# Altium footprint library Footprint.PcbLib: 240 footprints (part 1 of 15)
Each footprint in its own frame and in the unit in brackets; x right, y up, seen from the top. Pads: shape width x height; smd on the part's side, far side on the other; paste and mask are expansions set on the pad; w line width, h text height; cw(c..) or ccw(c..) is an arc to the next point about the centre after c.
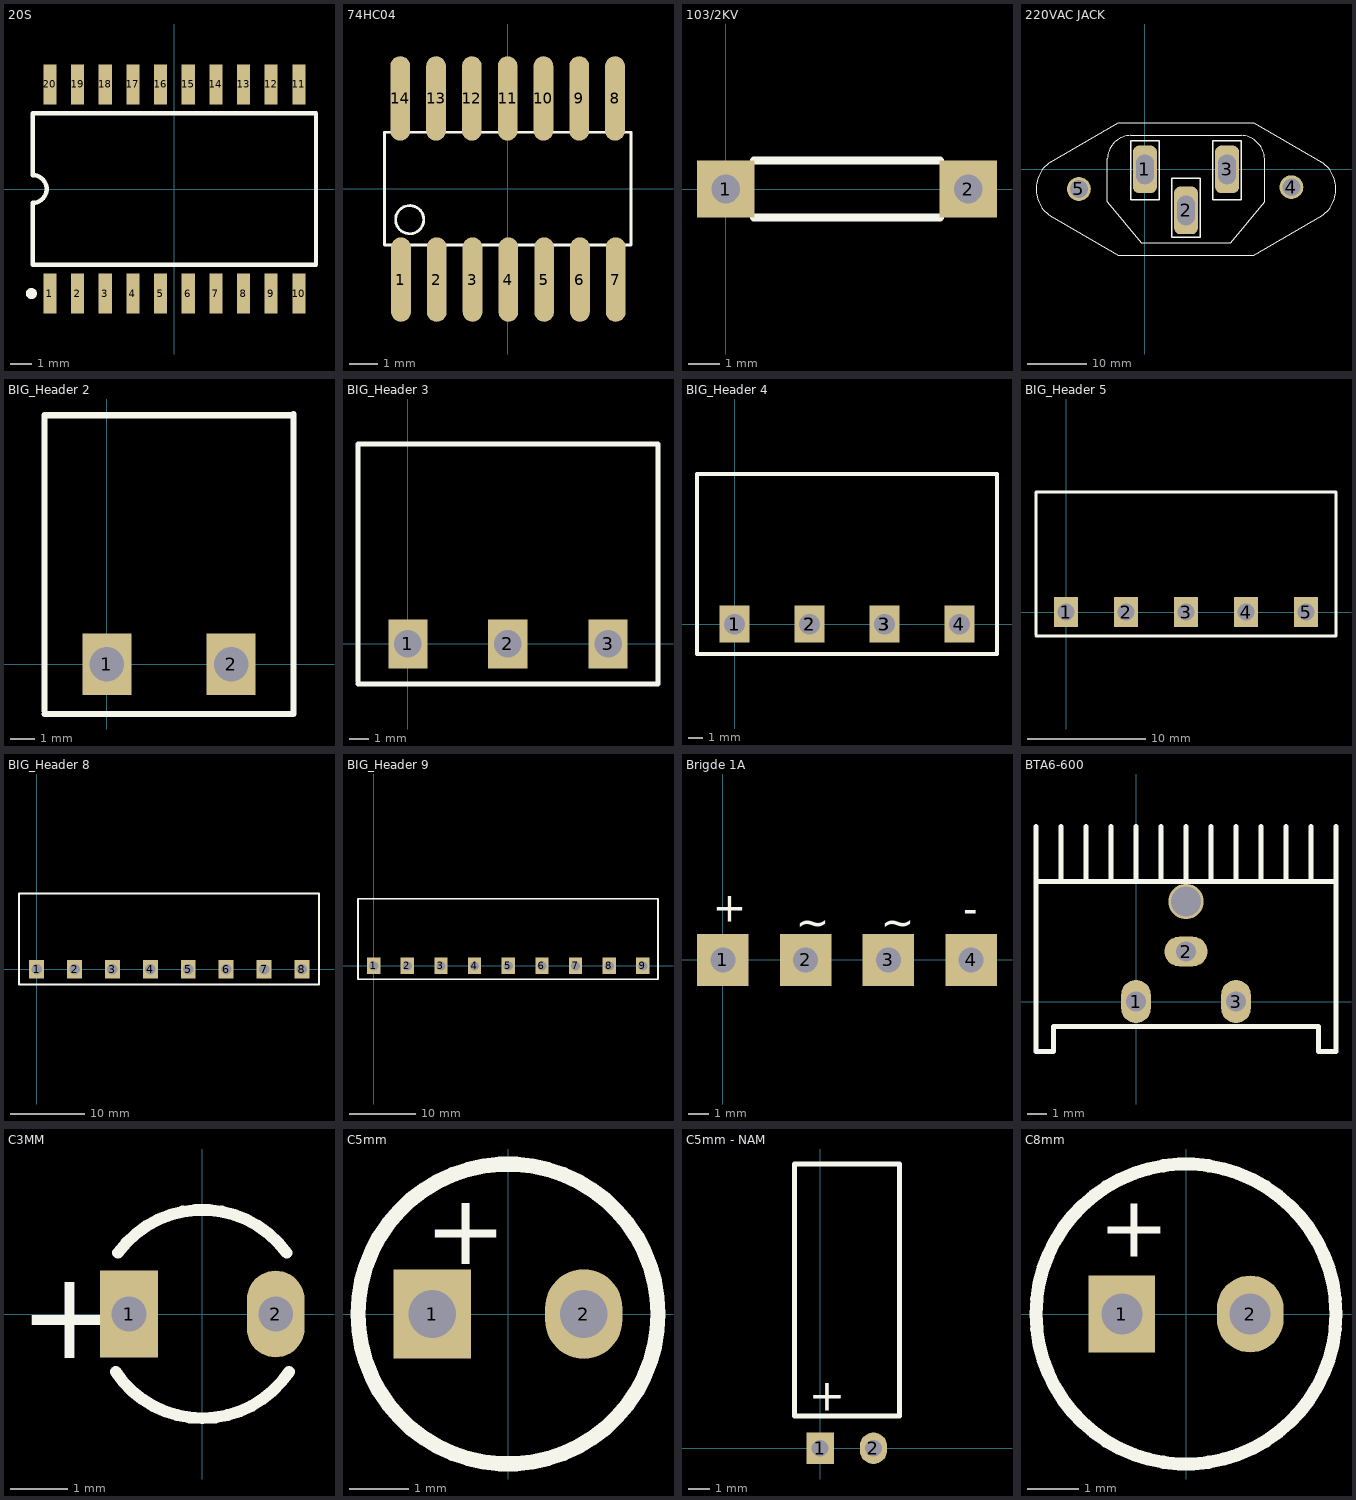
[diagram p0: the footprints below, top view; thin cyan lines are the x and y axes]

## 20S [mm] "Small Outline; 20 Leads; Body Width 7.5 mm; Pitch 1.27 mm"
height 2.67
pads (20):
  rect 0.6x1.85 smd: 1(-5.715,-4.8) 2(-4.445,-4.8) 3(-3.175,-4.8) 4(-1.905,-4.8) 5(-0.635,-4.8) 6(0.635,-4.8) 7(1.905,-4.8) 8(3.175,-4.8) 9(4.445,-4.8) 10(5.715,-4.8) 11(5.715,4.8) 12(4.445,4.8) 13(3.175,4.8) 14(1.905,4.8) 15(0.635,4.8) 16(-0.635,4.8) 17(-1.905,4.8) 18(-3.175,4.8) 19(-4.445,4.8) 20(-5.715,4.8)
Top Overlay:
  circle w0.25: c-6.565,-4.8 r0.125
  lines w0.2: -6.5,-3.475 -6.5,-0.635 ccw(c-6.5,0) -6.5,0.635 -6.5,3.475 6.5,3.475 6.5,-3.475 -6.5,-3.475

## 74HC04 [mm] "SOIC, 14-Leads, Body 8.7x3.9mm, Pitch 1.27mm, IPC Low Density"
height 1.75
pads (14):
  oval 0.7x3 smd: 1(-3.785,-3.226) 2(-2.515,-3.226) 3(-1.245,-3.226) 4(0.025,-3.226) 5(1.295,-3.226) 6(2.565,-3.226) 7(3.835,-3.226) 8(3.81,3.2) 9(2.54,3.2) 10(1.27,3.2) 11(0,3.2) 12(-1.27,3.2) 13(-2.54,3.2) 14(-3.81,3.2)
Top Layer:
  lines w0.254: 0,-3.2 0.025,-3.226
Top Overlay:
  circle w0.1: c-3.475,-1.1 r0.5
  lines w0.1: -4.375,-2 -4.375,2 4.375,2 4.375,-2 -4.375,-2
3D body: height 1.1, standoff 0, extent -5.08,-3.642 5.12,3.658

## 103/2KV [mm]
pads (2):
  rect 1.8x1.8 hole 0.9: 1(0,0) 2(7.62,0)
Top Overlay:
  lines w0.254: 0.889,-0.889 6.731,-0.889 ; 0.889,0.889 6.731,0.889
3D body: height 9.03, standoff -4.16, extent -0.19,-1.198 7.811,1.195

## 220VAC JACK [mm]
pads (5):
  rrect50% 4x8 hole 3 slot 5 at 90 deg: 1(0,0) 2(6.903,-6.903) 3(13.807,0)
  round 4 hole 3: 4(24.612,-3.001) 5(-11.105,-3.302)
Top Overlay:
  lines w0.2: -15.923,-7.804 -4.486,-14.407 ; -15.923,1.201 -4.486,7.804 ; -15.908,-7.804 cw(c-12.887,-3.302) -15.908,1.201 ; -4.502,-14.407 18.309,-14.407 ; -4.502,7.804 18.309,7.804 ; 18.293,-14.406 29.73,-7.803 ; 18.293,7.804 29.73,1.201 ; 29.714,-7.804 ccw(c26.694,-3.302) 29.714,1.201 ; -6.303,-5.403 -0.6,-12.306 14.407,-12.306 20.11,-5.403 20.11,1.801 ccw(c15.997,1.59) 16.208,5.703 -2.401,5.703 ccw(c-2.251,1.651) -6.303,1.801 -6.303,-5.403
  lines w0.254: -2.401,-5.102 -2.401,4.802 2.401,4.802 2.401,-5.102 -2.401,-5.102 ; 4.502,-11.405 4.502,-1.501 9.304,-1.501 9.304,-11.405 4.502,-11.405 ; 11.405,-5.102 11.405,4.802 16.208,4.802 16.208,-5.102 11.405,-5.102

## BIG_Header 2 [mm]
pads (2):
  rect 2x2.5 hole 1.4: 1(0,0) 2(5.08,0)
Top Overlay:
  lines w0.254: -2.54,-2.032 7.62,-2.032 7.62,10.211 ; -2.54,-1.905 -2.54,10.173 ; -2.54,10.16 7.62,10.16
3D body: height 3.15, standoff -9.32, extent 2.58,-1.75 7.58,10.25
3D body: height 3.15, standoff -9.32, extent -2.5,-1.75 2.5,10.25

## BIG_Header 3 [mm]
pads (3):
  rect 2x2.5 hole 1.4: 1(0,0) 2(5.08,0) 3(10.173,0)
Top Overlay:
  lines w0.254: -2.54,-2.032 12.713,-2.032 12.713,10.16 -2.54,10.16 -2.54,-1.905
3D body: height 3.15, standoff -9.32, extent 7.673,-1.75 12.673,10.25
3D body: height 3.15, standoff -9.32, extent 2.593,-1.75 7.593,10.25
3D body: height 3.15, standoff -9.32, extent -2.5,-1.75 2.5,10.25

## BIG_Header 4 [mm]
pads (7):
  rect 2x2.5 hole 1.4: 1(0,0) 1(0,0) 2(5.08,0) 2(5.08,0) 3(10.16,0) 3(10.173,0) 4(15.24,0)
Top Overlay:
  lines w0.254: 12.713,-2.032 -2.54,-2.032 7.62,-2.032 17.78,-2.032 17.78,10.173 -2.527,10.173 -2.54,10.173 -2.54,-1.905 -2.54,10.16 ; 12.713,10.16 -2.54,10.16 ; 17.78,10.16 -2.54,10.16
3D body: height 3.15, standoff -9.32, extent -2.5,-1.75 2.5,10.25
3D body: height 3.15, standoff -9.32, extent 2.58,-1.75 7.58,10.25
3D body: height 3.15, standoff -9.32, extent 7.66,-1.75 12.66,10.25
3D body: height 3.15, standoff -9.32, extent 12.74,-1.75 17.74,10.25

## BIG_Header 5 [mm]
pads (5):
  rect 2x2.5 hole 1.4: 1(0,0) 2(5.08,0) 3(10.16,0) 4(15.24,0) 5(20.32,0)
Top Overlay:
  lines w0.254: -2.54,-2.032 7.62,-2.032 22.86,-2.032 22.86,10.16 ; -2.54,-1.905 -2.54,10.16 ; -2.54,10.16 6.248,10.16 22.86,10.16 ; -2.54,10.16 22.86,10.16
3D body: height 3.15, standoff -9.32, extent 17.82,-1.75 22.82,10.25
3D body: height 3.15, standoff -9.32, extent 12.74,-1.75 17.74,10.25
3D body: height 3.15, standoff -9.32, extent 7.66,-1.75 12.66,10.25
3D body: height 3.15, standoff -9.32, extent 2.58,-1.75 7.58,10.25
3D body: height 3.15, standoff -9.32, extent -2.5,-1.75 2.5,10.25

## BIG_Header 8 [mm]
pads (8):
  rect 2x2.5 hole 1.4: 1(0,0) 2(5.08,0) 3(10.16,0) 4(15.24,0) 5(20.32,0) 6(25.4,0) 7(30.48,0) 8(35.56,0)
Top Overlay:
  lines w0.254: 13.843,10.16 37.846,10.16 37.846,-2.032 27.94,-2.032 17.78,-2.032 7.62,-2.032 -2.362,-2.032 -2.362,10.16 17.78,10.16
3D body: height 3.15, standoff -9.32, extent -2.5,-1.75 2.5,10.25
3D body: height 3.15, standoff -9.32, extent 2.58,-1.75 7.58,10.25
3D body: height 3.15, standoff -9.32, extent 7.66,-1.75 12.66,10.25
3D body: height 3.15, standoff -9.32, extent 12.74,-1.75 17.74,10.25
3D body: height 3.15, standoff -9.32, extent 17.82,-1.75 22.82,10.25
3D body: height 3.15, standoff -9.32, extent 22.9,-1.75 27.9,10.25
3D body: height 3.15, standoff -9.32, extent 27.98,-1.75 32.98,10.25
3D body: height 3.15, standoff -9.32, extent 33.06,-1.75 38.06,10.25

## BIG_Header 9 [mm]
pads (9):
  rect 2x2.5 hole 1.4: 1(0,0) 2(5.08,0) 3(10.16,0) 4(15.24,0) 5(20.32,0) 6(25.4,0) 7(30.48,0) 8(35.56,0) 9(40.64,0)
Top Overlay:
  lines w0.254: 13.843,10.16 42.926,10.16 42.926,-2.032 27.94,-2.032 17.78,-2.032 7.62,-2.032 -2.362,-2.032 -2.362,10.16 17.78,10.16
3D body: height 3.15, standoff -9.32, extent -2.5,-1.75 2.5,10.25
3D body: height 3.15, standoff -9.32, extent 2.58,-1.75 7.58,10.25
3D body: height 3.15, standoff -9.32, extent 7.66,-1.75 12.66,10.25
3D body: height 3.15, standoff -9.32, extent 12.74,-1.75 17.74,10.25
3D body: height 3.15, standoff -9.32, extent 17.82,-1.75 22.82,10.25
3D body: height 3.15, standoff -9.32, extent 22.9,-1.75 27.9,10.25
3D body: height 3.15, standoff -9.32, extent 27.98,-1.75 32.98,10.25
3D body: height 3.15, standoff -9.32, extent 33.06,-1.75 38.06,10.25
3D body: height 3.15, standoff -9.32, extent 38.14,-1.75 43.14,10.25

## Brigde 1A [mm]
pads (4):
  rect 2.5x2.5 / inner round 1.575 / far side rect 2.5x2.5 hole 1.2: 1(0,0) 2(4,0) 3(8,0) 4(12,0)
Top Overlay:
  text "-" at 11.608,1.778 h1.43
  text "+" at -0.483,1.841 h1.43
  text "~" at 7.62,1.13 h1.43
  text "~" at 3.531,1.118 h1.43
3D body: height 10.7, standoff -13.5, extent -1.27,-2.515 13.309,2.495

## BTA6-600 [mm] "TRIAC BTA6/6A/600V"
pads (4):
  oval 1.5x2.2 hole 1: 1(0,0) 3(5.08,0)
  oval 2.2x1.5 hole 1: 2(2.54,2.54)
  round 1.8 hole 1.5: ""(2.54,5.08)
Top Overlay:
  lines w0.254: -5.08,6.096 10.16,6.096 ; -5.08,8.89 -5.08,-2.54 -4.191,-2.54 -4.191,-1.27 9.271,-1.27 9.271,-2.54 10.16,-2.54 10.16,8.89 ; -3.81,6.096 -3.81,8.89 ; -2.54,6.096 -2.54,8.89 ; -1.27,6.096 -1.27,8.89 ; 0,6.096 0,8.89 ; 1.27,6.096 1.27,8.89 ; 2.54,6.096 2.54,8.89 ; 3.81,6.096 3.81,8.89 ; 5.08,6.096 5.08,8.89 ; 6.35,6.096 6.35,8.89 ; 7.62,6.096 7.62,8.89 ; 8.89,6.096 8.89,8.89
3D body: height 18.7, standoff -10.08, extent -2.41,-2.083 7.49,2.417
3D body: height 20, standoff 0, extent -5.96,2.54 11.04,12.54

## C3MM [mm]
pads (2):
  rect 1x1.5 hole 0.6: 1(-1.27,0)
  oval 1x1.5 hole 0.6: 2(1.27,0)
Top Overlay:
  lines w0.203: -1.502,-1.001 ccw(c0,0) 1.502,-1.001 ; -1.46,1.062 cw(c0,0) 1.46,1.062
  text "+" at -3.175,-0.762 h1.52
3D body: height 7.01, standoff -2.7, extent -2,-2.025 1.993,1.975

## C5mm [mm]
pads (2):
  rect 1.3x1.5 hole 0.8: 1(-1.27,0)
  oval 1.3x1.5 hole 0.8: 2(1.27,0)
Top Overlay:
  circle w0.254: c0,0 r2.515
  text "+" at -1.397,0.838 h1.2
3D body: height 11.01, standoff -2.7, extent -2.5,-2.5 2.489,2.5

## C5mm - NAM [mm]
pads (2):
  rect 1.3x1.5 hole 0.8: 1(0,0)
  oval 1.3x1.5 hole 0.8: 2(2.54,0)
Top Overlay:
  lines w0.254: -1.219,1.537 3.781,1.537 3.781,13.537 -1.219,13.537 -1.219,1.537
  text "+" at -0.533,1.791 h1.52

## C8mm [mm]
pads (2):
  rect 1.3x1.5 hole 0.8: 1(-1.25,0)
  oval 1.3x1.5 hole 0.8: 2(1.25,0)
Top Overlay:
  circle w0.254: c0,0 r2.921
  text "+" at -1.702,1.118 h1.2
3D body: height 11.51, standoff -2.7, extent -3.15,-3.15 3.133,3.15